# Altium integrated library WiPhoneDB.IntLib: 1 symbol
Pins are listed as number, name and electrical type; pins without a type are passive.

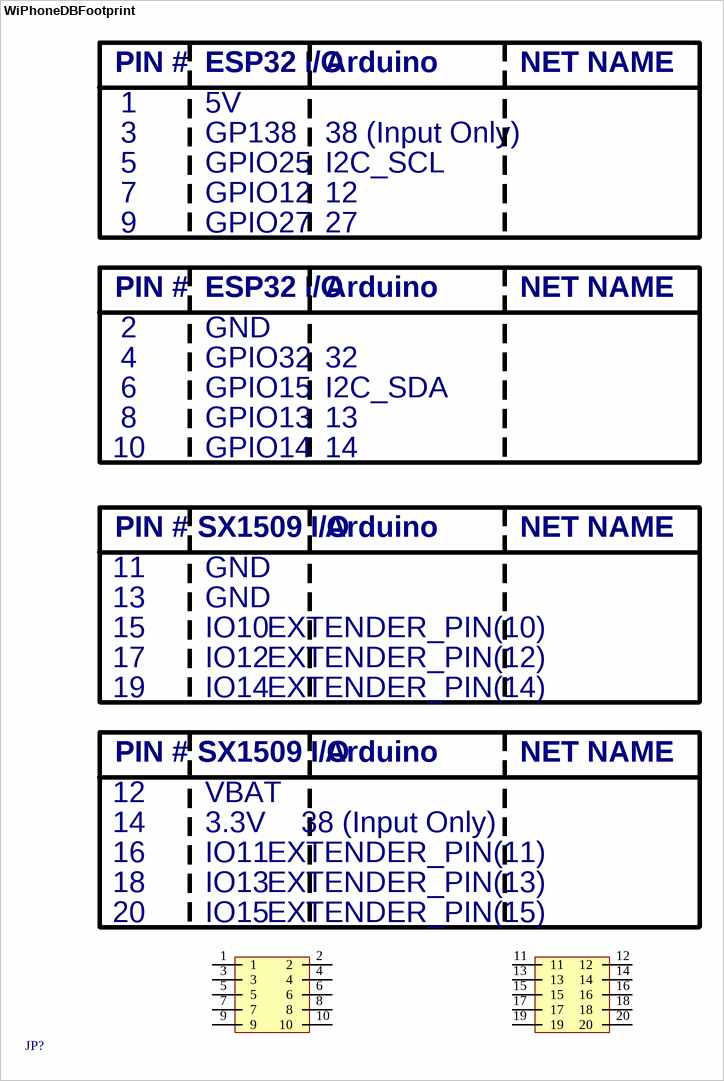
[diagram p0: symbol WiPhoneDBFootprint]

## WiPhoneDBFootprint
designator JP?, comment WiPhoneDBConn.  (value not drawn)
Category: Connector
footprint WiPhoneDBFootprint
pins: 1, 2, 3, 4, 5, 6, 7, 8, 9, 10, 11, 12, 13, 14, 15, 16, 17, 18, 19, 20
text: PIN #; ESP32 I/O; Arduino; NET NAME; 5V; GP138; 38 (Input Only); GPIO25; I2C_SCL; GPIO12; GPIO27; 27; GND; GPIO32; 32; GPIO15; I2C_SDA; GPIO13; GPIO14; SX1509 I/O; IO10; EXTENDER_PIN(10); IO12; EXTENDER_PIN(12); IO14; EXTENDER_PIN(14); VBAT; 3.3V; IO11; EXTENDER_PIN(11); IO13; EXTENDER_PIN(13); IO15; EXTENDER_PIN(15)